# EAGLE library part INA199A3DCKR (library main_board)
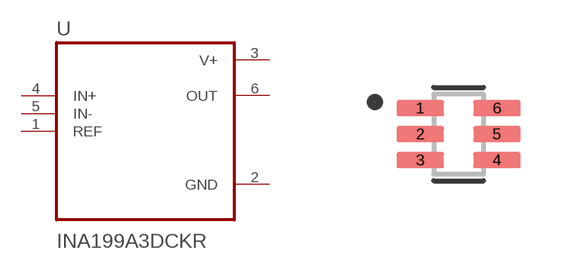
[diagram p4: symbol with the pads of SOT65P210X110-6N; footprint SOT65P210X110-6N]

Designator prefix U

## INA199A3DCKR (DESCRIPTION: 26V, bi-directional current sense amplifier 6-SC70 -40 to 125; DIGI-KEY_PART_NUMBER: 296-27333-1-ND; MF: Texas Instruments; MP: INA199A3DCKR; PACKAGE: SOT-SC70-6 Texas Instruments; PURCHASE-URL: https://pricing.snapeda.com/search/part/INA199A3DCKR/?ref=eda)  [SOT65P210X110-6N]
1  REF  in
2  GND  pwr
3  V+  pwr
4  IN+  in
5  IN-  in
6  OUT  out

## Footprint SOT65P210X110-6N (pad centres in mm)
smd 1.19 x 0.4: 1 -0.96,0.65; 2 -0.96,0; 3 -0.96,-0.65; 4 0.96,-0.65; 5 0.96,0; 6 0.96,0.65